# Altium footprint library DAC7614EB.PcbLib: 3 footprints
Each footprint in its own frame and in the unit in brackets; x right, y up, seen from the top. Pads: shape width x height; smd on the part's side, far side on the other; paste and mask are expansions set on the pad; w line width, h text height; cw(c..) or ccw(c..) is an arc to the next point about the centre after c.
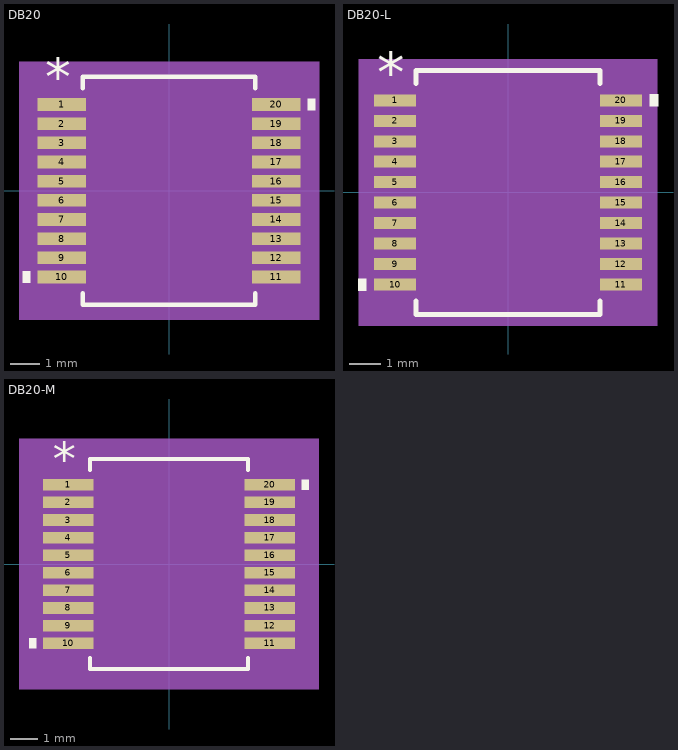
[diagram p0: the footprints below, top view; thin cyan lines are the x and y axes]

## DB20 [mm]
pads (20):
  rect 1.64x0.431 smd paste+0 mask+0: 1(-3.632,2.925) 2(-3.632,2.275) 3(-3.632,1.625) 4(-3.632,0.975) 5(-3.632,0.325) 6(-3.632,-0.325) 7(-3.632,-0.975) 8(-3.632,-1.625) 9(-3.632,-2.275) 10(-3.632,-2.925) 11(3.632,-2.925) 12(3.632,-2.275) 13(3.632,-1.625) 14(3.632,-0.975) 15(3.632,-0.325) 16(3.632,0.325) 17(3.632,0.975) 18(3.632,1.625) 19(3.632,2.275) 20(3.632,2.925)
Top Overlay:
  region: -4.706,-2.734 -4.96,-2.734 -4.96,-3.115 -4.706,-3.115
  region: 4.706,3.115 4.96,3.115 4.96,2.734 4.706,2.734
  lines w0.152: -2.921,-3.473 -2.921,-3.873 2.921,-3.873 2.921,-3.473 ; -2.921,3.473 -2.921,3.873 2.921,3.873 2.921,3.473
  text "*" at -4.204,3.229 h1.27
Mechanical 5:
  region: 5.087,-4.381 -5.087,-4.381 -5.087,4.381 5.087,4.381
Mechanical 13:
  lines w0: -0.305,3.746 ccw(c0,3.746) 0.305,3.746
  lines w0.025: -4.102,-3.115 -4.102,-2.734 -2.794,-2.734 -2.794,-3.115 -4.102,-3.115 ; -4.102,-2.465 -4.102,-2.084 -2.794,-2.084 -2.794,-2.465 -4.102,-2.465 ; -4.102,-1.815 -4.102,-1.434 -2.794,-1.434 -2.794,-1.815 -4.102,-1.815 ; -4.102,-1.165 -4.102,-0.784 -2.794,-0.784 -2.794,-1.165 -4.102,-1.165 ; -4.102,-0.515 -4.102,-0.134 -2.794,-0.134 -2.794,-0.515 -4.102,-0.515 ; -4.102,0.135 -4.102,0.516 -2.794,0.516 -2.794,0.135 -4.102,0.135 ; -4.102,0.784 -4.102,1.165 -2.794,1.165 -2.794,0.784 -4.102,0.784 ; -4.102,1.435 -4.102,1.816 -2.794,1.816 -2.794,1.435 -4.102,1.435 ; -4.102,2.084 -4.102,2.465 -2.794,2.465 -2.794,2.084 -4.102,2.084 ; -4.102,2.735 -4.102,3.116 -2.794,3.116 -2.794,2.735 -4.102,2.735 ; -2.794,-3.746 2.794,-3.746 2.794,3.746 -2.794,3.746 -2.794,-3.746 ; 2.794,-3.116 2.794,-2.735 4.102,-2.735 4.102,-3.116 2.794,-3.116 ; 2.794,-2.466 2.794,-2.085 4.102,-2.085 4.102,-2.466 2.794,-2.466 ; 2.794,-1.816 2.794,-1.435 4.102,-1.435 4.102,-1.816 2.794,-1.816 ; 2.794,-1.166 2.794,-0.785 4.102,-0.785 4.102,-1.166 2.794,-1.166 ; 2.794,-0.516 2.794,-0.135 4.102,-0.135 4.102,-0.516 2.794,-0.516 ; 2.794,0.134 2.794,0.515 4.102,0.515 4.102,0.134 2.794,0.134 ; 2.794,0.784 2.794,1.165 4.102,1.165 4.102,0.784 2.794,0.784 ; 2.794,1.434 2.794,1.815 4.102,1.815 4.102,1.434 2.794,1.434 ; 2.794,2.084 2.794,2.465 4.102,2.465 4.102,2.084 2.794,2.084 ; 2.794,2.734 2.794,3.115 4.102,3.115 4.102,2.734 2.794,2.734
  text "*" at -2.73,2.4 h1.27
Mechanical 15:
  region: -3.048,-3.394 -4.706,-3.394 -4.706,3.394 -3.048,3.394 -3.048,4 3.048,4 3.048,3.394 4.706,3.394 4.706,-3.394 3.048,-3.394 3.048,-4 -3.048,-4
  lines w0.152: -4.706,-3.394 -4.706,3.394 -3.048,3.394 -3.048,4 3.048,4 3.048,3.394 4.706,3.394 4.706,-3.394 3.048,-3.394 3.048,-4 -3.048,-4 -3.048,-3.394 -4.706,-3.394
3D body "DB20.step": height 2.01, standoff 0, extent -4.102,-3.746 4.102,3.746

## DB20-L [mm]
pads (20):
  rect 1.34x0.381 smd paste+0 mask+0: 1(-3.582,2.925) 2(-3.582,2.275) 3(-3.582,1.625) 4(-3.582,0.975) 5(-3.582,0.325) 6(-3.582,-0.325) 7(-3.582,-0.975) 8(-3.582,-1.625) 9(-3.582,-2.275) 10(-3.582,-2.925) 11(3.582,-2.925) 12(3.582,-2.275) 13(3.582,-1.625) 14(3.582,-0.975) 15(3.582,-0.325) 16(3.582,0.325) 17(3.582,0.975) 18(3.582,1.625) 19(3.582,2.275) 20(3.582,2.925)
Top Overlay:
  region: -4.506,-2.734 -4.76,-2.734 -4.76,-3.115 -4.506,-3.115
  region: 4.506,3.115 4.76,3.115 4.76,2.734 4.506,2.734
  lines w0.152: -2.921,-3.448 -2.921,-3.873 2.921,-3.873 2.921,-3.448 ; -2.921,3.448 -2.921,3.873 2.921,3.873 2.921,3.448
  text "*" at -4.154,3.179 h1.27
Mechanical 5:
  region: 4.735,-4.229 -4.735,-4.229 -4.735,4.229 4.735,4.229
Mechanical 13:
  lines w0: -0.305,3.746 ccw(c0,3.746) 0.305,3.746
  lines w0.025: -4.102,-3.115 -4.102,-2.734 -2.794,-2.734 -2.794,-3.115 -4.102,-3.115 ; -4.102,-2.465 -4.102,-2.084 -2.794,-2.084 -2.794,-2.465 -4.102,-2.465 ; -4.102,-1.815 -4.102,-1.434 -2.794,-1.434 -2.794,-1.815 -4.102,-1.815 ; -4.102,-1.165 -4.102,-0.784 -2.794,-0.784 -2.794,-1.165 -4.102,-1.165 ; -4.102,-0.515 -4.102,-0.134 -2.794,-0.134 -2.794,-0.515 -4.102,-0.515 ; -4.102,0.135 -4.102,0.516 -2.794,0.516 -2.794,0.135 -4.102,0.135 ; -4.102,0.784 -4.102,1.165 -2.794,1.165 -2.794,0.784 -4.102,0.784 ; -4.102,1.435 -4.102,1.816 -2.794,1.816 -2.794,1.435 -4.102,1.435 ; -4.102,2.084 -4.102,2.465 -2.794,2.465 -2.794,2.084 -4.102,2.084 ; -4.102,2.735 -4.102,3.116 -2.794,3.116 -2.794,2.735 -4.102,2.735 ; -2.794,-3.746 2.794,-3.746 2.794,3.746 -2.794,3.746 -2.794,-3.746 ; 2.794,-3.116 2.794,-2.735 4.102,-2.735 4.102,-3.116 2.794,-3.116 ; 2.794,-2.466 2.794,-2.085 4.102,-2.085 4.102,-2.466 2.794,-2.466 ; 2.794,-1.816 2.794,-1.435 4.102,-1.435 4.102,-1.816 2.794,-1.816 ; 2.794,-1.166 2.794,-0.785 4.102,-0.785 4.102,-1.166 2.794,-1.166 ; 2.794,-0.516 2.794,-0.135 4.102,-0.135 4.102,-0.516 2.794,-0.516 ; 2.794,0.134 2.794,0.515 4.102,0.515 4.102,0.134 2.794,0.134 ; 2.794,0.784 2.794,1.165 4.102,1.165 4.102,0.784 2.794,0.784 ; 2.794,1.434 2.794,1.815 4.102,1.815 4.102,1.434 2.794,1.434 ; 2.794,2.084 2.794,2.465 4.102,2.465 4.102,2.084 2.794,2.084 ; 2.794,2.734 2.794,3.115 4.102,3.115 4.102,2.734 2.794,2.734
  text "*" at -2.73,2.4 h1.27
Mechanical 15:
  region: -2.896,-3.217 -4.354,-3.217 -4.354,3.217 -2.896,3.217 -2.896,3.848 2.896,3.848 2.896,3.217 4.354,3.217 4.354,-3.217 2.896,-3.217 2.896,-3.848 -2.896,-3.848
  lines w0.152: -4.354,-3.217 -4.354,3.217 -2.896,3.217 -2.896,3.848 2.896,3.848 2.896,3.217 4.354,3.217 4.354,-3.217 2.896,-3.217 2.896,-3.848 -2.896,-3.848 -2.896,-3.217 -4.354,-3.217
3D body "DB20.step": height 2.01, standoff 0, extent -4.102,-3.746 4.102,3.746

## DB20-M [mm]
pads (20):
  rect 1.858x0.431 smd paste+0 mask+0: 1(-3.723,2.925) 2(-3.723,2.275) 3(-3.723,1.625) 4(-3.723,0.975) 5(-3.723,0.325) 6(-3.723,-0.325) 7(-3.723,-0.975) 8(-3.723,-1.625) 9(-3.723,-2.275) 10(-3.723,-2.925) 11(3.723,-2.925) 12(3.723,-2.275) 13(3.723,-1.625) 14(3.723,-0.975) 15(3.723,-0.325) 16(3.723,0.325) 17(3.723,0.975) 18(3.723,1.625) 19(3.723,2.275) 20(3.723,2.925)
Top Overlay:
  region: -4.906,-2.734 -5.16,-2.734 -5.16,-3.115 -4.906,-3.115
  region: 4.906,3.115 5.16,3.115 5.16,2.734 4.906,2.734
  lines w0.152: -2.921,-3.473 -2.921,-3.873 2.921,-3.873 2.921,-3.473 ; -2.921,3.473 -2.921,3.873 2.921,3.873 2.921,3.473
  text "*" at -4.295,3.229 h1.27
Mechanical 5:
  region: 5.541,-4.635 -5.541,-4.635 -5.541,4.635 5.541,4.635
Mechanical 13:
  lines w0: -0.305,3.746 ccw(c0,3.746) 0.305,3.746
  lines w0.025: -4.102,-3.115 -4.102,-2.734 -2.794,-2.734 -2.794,-3.115 -4.102,-3.115 ; -4.102,-2.465 -4.102,-2.084 -2.794,-2.084 -2.794,-2.465 -4.102,-2.465 ; -4.102,-1.815 -4.102,-1.434 -2.794,-1.434 -2.794,-1.815 -4.102,-1.815 ; -4.102,-1.165 -4.102,-0.784 -2.794,-0.784 -2.794,-1.165 -4.102,-1.165 ; -4.102,-0.515 -4.102,-0.134 -2.794,-0.134 -2.794,-0.515 -4.102,-0.515 ; -4.102,0.135 -4.102,0.516 -2.794,0.516 -2.794,0.135 -4.102,0.135 ; -4.102,0.784 -4.102,1.165 -2.794,1.165 -2.794,0.784 -4.102,0.784 ; -4.102,1.435 -4.102,1.816 -2.794,1.816 -2.794,1.435 -4.102,1.435 ; -4.102,2.084 -4.102,2.465 -2.794,2.465 -2.794,2.084 -4.102,2.084 ; -4.102,2.735 -4.102,3.116 -2.794,3.116 -2.794,2.735 -4.102,2.735 ; -2.794,-3.746 2.794,-3.746 2.794,3.746 -2.794,3.746 -2.794,-3.746 ; 2.794,-3.116 2.794,-2.735 4.102,-2.735 4.102,-3.116 2.794,-3.116 ; 2.794,-2.466 2.794,-2.085 4.102,-2.085 4.102,-2.466 2.794,-2.466 ; 2.794,-1.816 2.794,-1.435 4.102,-1.435 4.102,-1.816 2.794,-1.816 ; 2.794,-1.166 2.794,-0.785 4.102,-0.785 4.102,-1.166 2.794,-1.166 ; 2.794,-0.516 2.794,-0.135 4.102,-0.135 4.102,-0.516 2.794,-0.516 ; 2.794,0.134 2.794,0.515 4.102,0.515 4.102,0.134 2.794,0.134 ; 2.794,0.784 2.794,1.165 4.102,1.165 4.102,0.784 2.794,0.784 ; 2.794,1.434 2.794,1.815 4.102,1.815 4.102,1.434 2.794,1.434 ; 2.794,2.084 2.794,2.465 4.102,2.465 4.102,2.084 2.794,2.084 ; 2.794,2.734 2.794,3.115 4.102,3.115 4.102,2.734 2.794,2.734
  text "*" at -2.73,2.4 h1.27
Mechanical 15:
  region: -3.302,-3.648 -5.16,-3.648 -5.16,3.648 -3.302,3.648 -3.302,4.255 3.302,4.255 3.302,3.648 5.16,3.648 5.16,-3.648 3.302,-3.648 3.302,-4.255 -3.302,-4.255
  lines w0.152: -5.16,-3.648 -5.16,3.648 -3.302,3.648 -3.302,4.255 3.302,4.255 3.302,3.648 5.16,3.648 5.16,-3.648 3.302,-3.648 3.302,-4.255 -3.302,-4.255 -3.302,-3.648 -5.16,-3.648
3D body "DB20.step": height 2.01, standoff 0, extent -4.102,-3.746 4.102,3.746